# EAGLE library part 74LCX04M (library Fairchild_By_element14_Batch_1)
Low Voltage Hex Inverter
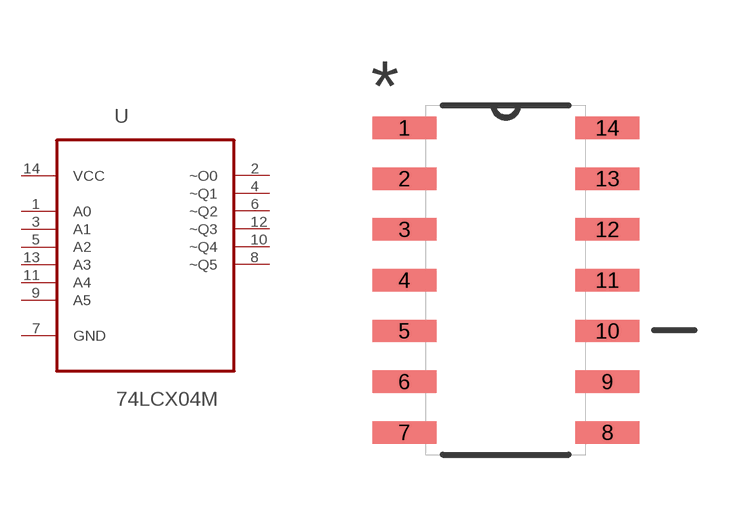
[diagram p69: symbol with the pads of SOIC127P600X175-14N; footprint SOIC127P600X175-14N]

Designator prefix U

## 74LCX04M (MPN: 74LCX04M; OC_FARNELL: 1013773; OC_NEWARK: 99K0605; PACKAGE: SOIC-14; SUPPLIER: Fairchild)  [SOIC127P600X175-14N]
1  A0  in
2  ~O0  out
3  A1  in
4  ~Q1  out
5  A2  in
6  ~Q2  out
7  GND  pas
8  ~Q5  out
9  A5  in
10  ~Q4  out
11  A4  in
12  ~Q3  out
13  A3  in
14  VCC  pwr

## Footprint SOIC127P600X175-14N (pad centres in mm)
smd 1.6 x 0.559: 1 -2.54,3.81; 2 -2.54,2.54; 3 -2.54,1.27; 4 -2.54,0; 5 -2.54,-1.27; 6 -2.54,-2.54; 7 -2.54,-3.81; 8 2.54,-3.81; 9 2.54,-2.54; 10 2.54,-1.27; 11 2.54,0; 12 2.54,1.27; 13 2.54,2.54; 14 2.54,3.81